# EAGLE library part OPA1632D (library keves)
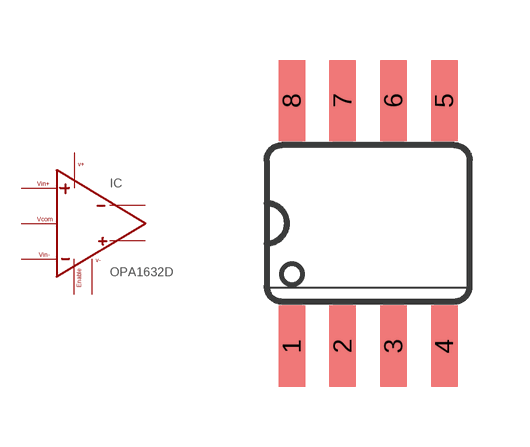
[diagram p25: symbol with the pads of SO08; footprint SO08]

Designator prefix IC

## OPA1632D  [SO08]
1  VIN-
2  VCOM
3  V+
4  VOUT+
5  VOUT-
6  V-
7  ENABLE
8  VIN+

## Footprint SO08 (pad centres in mm)
Small Outline Package SOIC 150 mil
smd 0.66 x 2.032: 1 -1.905,-3.073; 2 -0.635,-3.073; 3 0.635,-3.073; 4 1.905,-3.073; 5 1.905,3.073; 6 0.635,3.073; 7 -0.635,3.073; 8 -1.905,3.073